# Altium footprint library SDR0302-6R8ML.PcbLib: 1 footprints
Each footprint in its own frame and in the unit in brackets; x right, y up, seen from the top. Pads: shape width x height; smd on the part's side, far side on the other; paste and mask are expansions set on the pad; w line width, h text height; cw(c..) or ccw(c..) is an arc to the next point about the centre after c.
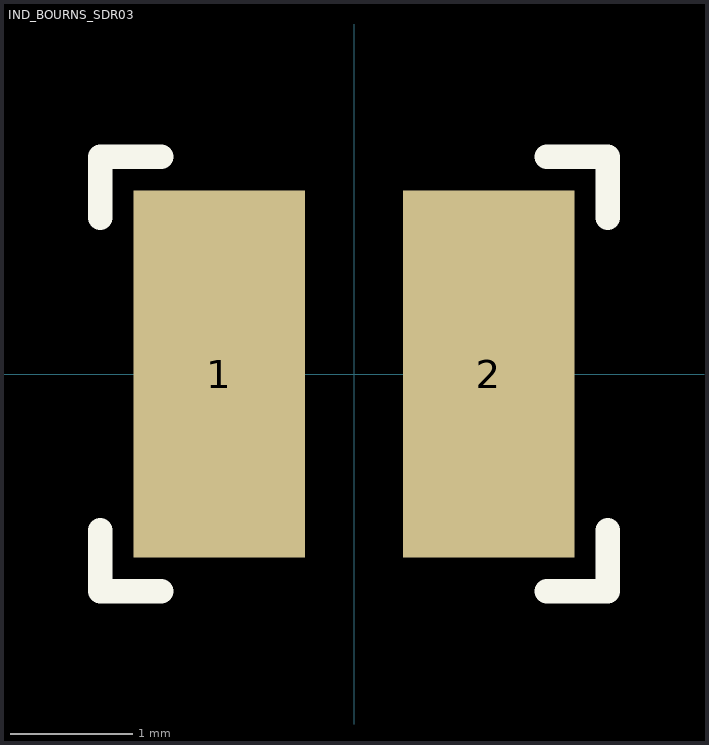
[diagram p0: the footprint, top view; thin cyan lines are the x and y axes]

## IND_BOURNS_SDR03 [mm]
pads (2):
  rect 1.4x3 smd paste+0 mask+0: 1(-1.1,0) 2(1.1,0)
Top Overlay:
  lines w0.2: -2.075,-1.275 -2.075,-1.775 -1.575,-1.775 ; -2.075,1.275 -2.075,1.775 -1.575,1.775 ; 1.575,-1.775 2.075,-1.775 2.075,-1.275 ; 1.575,1.775 2.075,1.775 2.075,1.275
3D body "sdr0302_PAINT.STEP": height 2.5, standoff 0, extent -1.475,-1.5 1.525,1.5